# EAGLE library part MH-CD42 (library ytani1)
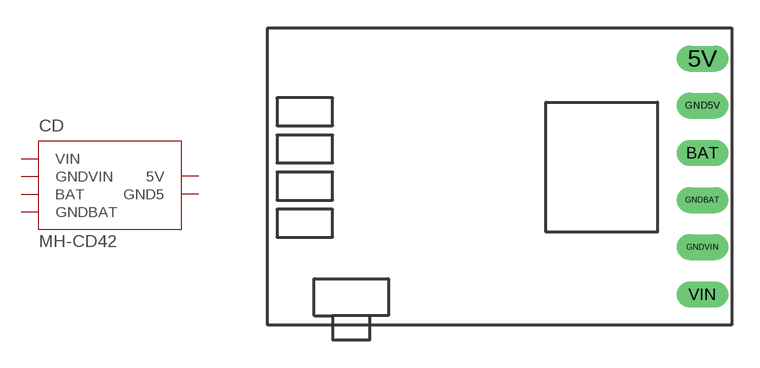
[diagram p11: symbol with the pads of MH-CD42; footprint MH-CD42]

Designator prefix CD

## MH-CD42  [MH-CD42]
5V  5V
BAT  BAT
GND5V  GND5
GNDBAT  GNDBAT
GNDVIN  GNDVIN
VIN  VIN

## Footprint MH-CD42 (pad centres in mm)
drill 0.9 long: 5V 10.16,6.35; BAT 10.16,1.27; GND5V 10.16,3.81; GNDBAT 10.16,-1.27; GNDVIN 10.16,-3.81; VIN 10.16,-6.35